# Altium footprint library FQFP - Rectangle.PcbLib: 37 footprints (part 2 of 3)
Each footprint in its own frame and in the unit in brackets; x right, y up, seen from the top. Pads: shape width x height; smd on the part's side, far side on the other; paste and mask are expansions set on the pad; w line width, h text height; cw(c..) or ccw(c..) is an arc to the next point about the centre after c.
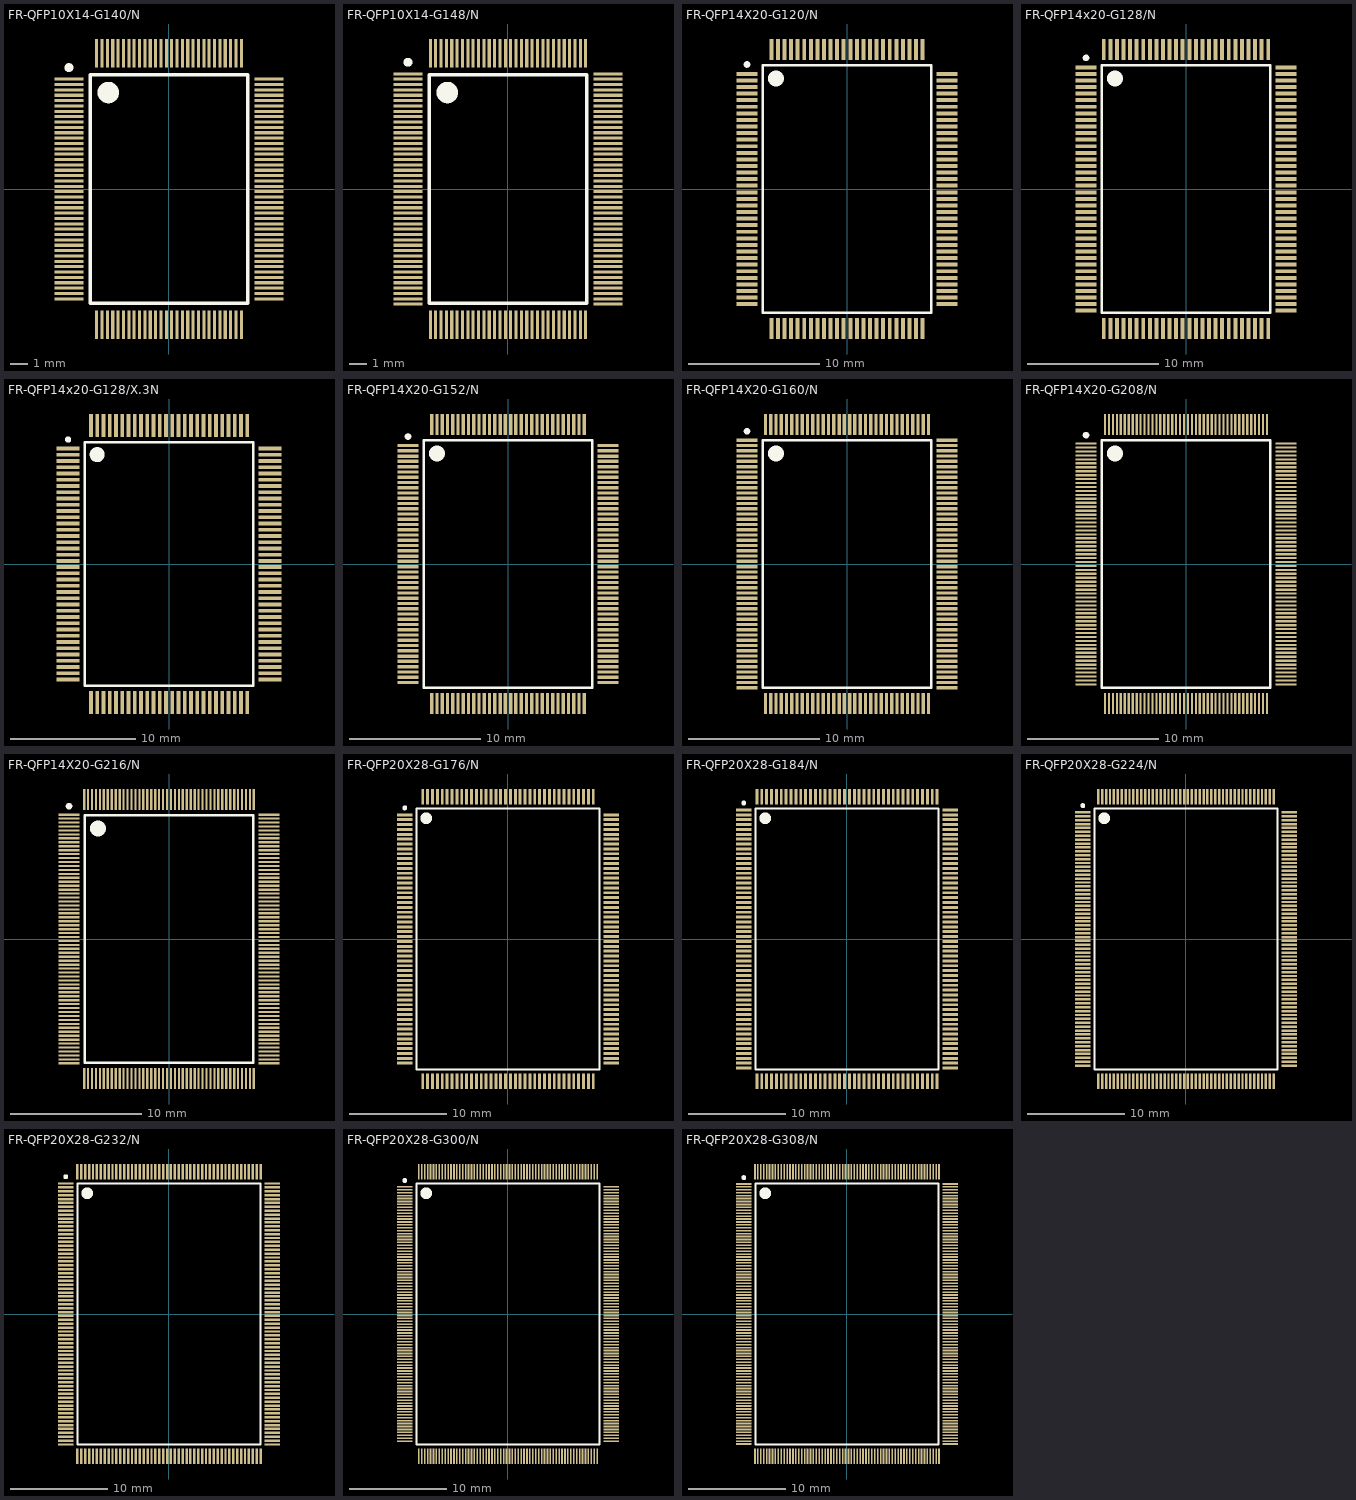
[diagram p1: the footprints below, top view; thin cyan lines are the x and y axes]

## FR-QFP10X14-G140/N [mm] "QFP; 140 Leads; Body 10 x 14 mm; Pitch 0.3 mm"
height 2.2
pads (140):
  rect 1.6x0.17 smd: 1(-5.6,6.15) 2(-5.6,5.85) 3(-5.6,5.55) 4(-5.6,5.25) 5(-5.6,4.95) 6(-5.6,4.65) 7(-5.6,4.35) 8(-5.6,4.05) 9(-5.6,3.75) 10(-5.6,3.45) 11(-5.6,3.15) 12(-5.6,2.85) 13(-5.6,2.55) 14(-5.6,2.25) 15(-5.6,1.95) 16(-5.6,1.65) 17(-5.6,1.35) 18(-5.6,1.05) 19(-5.6,0.75) 20(-5.6,0.45) 21(-5.6,0.15) 22(-5.6,-0.15) 23(-5.6,-0.45) 24(-5.6,-0.75) 25(-5.6,-1.05) 26(-5.6,-1.35) 27(-5.6,-1.65) 28(-5.6,-1.95) 29(-5.6,-2.25) 30(-5.6,-2.55) 31(-5.6,-2.85) 32(-5.6,-3.15) 33(-5.6,-3.45) 34(-5.6,-3.75) 35(-5.6,-4.05) 36(-5.6,-4.35) 37(-5.6,-4.65) 38(-5.6,-4.95) 39(-5.6,-5.25) 40(-5.6,-5.55) 41(-5.6,-5.85) 42(-5.6,-6.15) 71(5.6,-6.15) 72(5.6,-5.85) 73(5.6,-5.55) 74(5.6,-5.25) 75(5.6,-4.95) 76(5.6,-4.65) 77(5.6,-4.35) 78(5.6,-4.05) 79(5.6,-3.75) 80(5.6,-3.45) 81(5.6,-3.15) 82(5.6,-2.85) 83(5.6,-2.55) 84(5.6,-2.25) 85(5.6,-1.95) 86(5.6,-1.65) 87(5.6,-1.35) 88(5.6,-1.05) 89(5.6,-0.75) 90(5.6,-0.45) 91(5.6,-0.15) 92(5.6,0.15) 93(5.6,0.45) 94(5.6,0.75) 95(5.6,1.05) 96(5.6,1.35) 97(5.6,1.65) 98(5.6,1.95) 99(5.6,2.25) 100(5.6,2.55) 101(5.6,2.85) 102(5.6,3.15) 103(5.6,3.45) 104(5.6,3.75) 105(5.6,4.05) 106(5.6,4.35) 107(5.6,4.65) 108(5.6,4.95) 109(5.6,5.25) 110(5.6,5.55) 111(5.6,5.85) 112(5.6,6.15)
  rect 0.17x1.6 smd: 43(-4.05,-7.6) 44(-3.75,-7.6) 45(-3.45,-7.6) 46(-3.15,-7.6) 47(-2.85,-7.6) 48(-2.55,-7.6) 49(-2.25,-7.6) 50(-1.95,-7.6) 51(-1.65,-7.6) 52(-1.35,-7.6) 53(-1.05,-7.6) 54(-0.75,-7.6) 55(-0.45,-7.6) 56(-0.15,-7.6) 57(0.15,-7.6) 58(0.45,-7.6) 59(0.75,-7.6) 60(1.05,-7.6) 61(1.35,-7.6) 62(1.65,-7.6) 63(1.95,-7.6) 64(2.25,-7.6) 65(2.55,-7.6) 66(2.85,-7.6) 67(3.15,-7.6) 68(3.45,-7.6) 69(3.75,-7.6) 70(4.05,-7.6) 113(4.05,7.6) 114(3.75,7.6) 115(3.45,7.6) 116(3.15,7.6) 117(2.85,7.6) 118(2.55,7.6) 119(2.25,7.6) 120(1.95,7.6) 121(1.65,7.6) 122(1.35,7.6) 123(1.05,7.6) 124(0.75,7.6) 125(0.45,7.6) 126(0.15,7.6) 127(-0.15,7.6) 128(-0.45,7.6) 129(-0.75,7.6) 130(-1.05,7.6) 131(-1.35,7.6) 132(-1.65,7.6) 133(-1.95,7.6) 134(-2.25,7.6) 135(-2.55,7.6) 136(-2.85,7.6) 137(-3.15,7.6) 138(-3.45,7.6) 139(-3.75,7.6) 140(-4.05,7.6)
Top Overlay:
  circle w0.6: c-3.4,5.4 r0.3
  circle w0.25: c-5.6,6.797 r0.125
  lines w0.2: -4.4,-6.4 -4.4,6.4 4.4,6.4 4.4,-6.4 -4.4,-6.4

## FR-QFP10X14-G148/N [mm] "QFP; 148 Leads; Body 10 x 14 mm; Pitch 0.3 mm"
height 2.2
pads (148):
  rect 1.6x0.17 smd: 1(-5.6,6.45) 2(-5.6,6.15) 3(-5.6,5.85) 4(-5.6,5.55) 5(-5.6,5.25) 6(-5.6,4.95) 7(-5.6,4.65) 8(-5.6,4.35) 9(-5.6,4.05) 10(-5.6,3.75) 11(-5.6,3.45) 12(-5.6,3.15) 13(-5.6,2.85) 14(-5.6,2.55) 15(-5.6,2.25) 16(-5.6,1.95) 17(-5.6,1.65) 18(-5.6,1.35) 19(-5.6,1.05) 20(-5.6,0.75) 21(-5.6,0.45) 22(-5.6,0.15) 23(-5.6,-0.15) 24(-5.6,-0.45) 25(-5.6,-0.75) 26(-5.6,-1.05) 27(-5.6,-1.35) 28(-5.6,-1.65) 29(-5.6,-1.95) 30(-5.6,-2.25) 31(-5.6,-2.55) 32(-5.6,-2.85) 33(-5.6,-3.15) 34(-5.6,-3.45) 35(-5.6,-3.75) 36(-5.6,-4.05) 37(-5.6,-4.35) 38(-5.6,-4.65) 39(-5.6,-4.95) 40(-5.6,-5.25) 41(-5.6,-5.55) 42(-5.6,-5.85) 43(-5.6,-6.15) 44(-5.6,-6.45) 75(5.6,-6.45) 76(5.6,-6.15) 77(5.6,-5.85) 78(5.6,-5.55) 79(5.6,-5.25) 80(5.6,-4.95) 81(5.6,-4.65) 82(5.6,-4.35) 83(5.6,-4.05) 84(5.6,-3.75) 85(5.6,-3.45) 86(5.6,-3.15) 87(5.6,-2.85) 88(5.6,-2.55) 89(5.6,-2.25) 90(5.6,-1.95) 91(5.6,-1.65) 92(5.6,-1.35) 93(5.6,-1.05) 94(5.6,-0.75) 95(5.6,-0.45) 96(5.6,-0.15) 97(5.6,0.15) 98(5.6,0.45) 99(5.6,0.75) 100(5.6,1.05) 101(5.6,1.35) 102(5.6,1.65) 103(5.6,1.95) 104(5.6,2.25) 105(5.6,2.55) 106(5.6,2.85) 107(5.6,3.15) 108(5.6,3.45) 109(5.6,3.75) 110(5.6,4.05) 111(5.6,4.35) 112(5.6,4.65) 113(5.6,4.95) 114(5.6,5.25) 115(5.6,5.55) 116(5.6,5.85) 117(5.6,6.15) 118(5.6,6.45)
  rect 0.17x1.6 smd: 45(-4.35,-7.6) 46(-4.05,-7.6) 47(-3.75,-7.6) 48(-3.45,-7.6) 49(-3.15,-7.6) 50(-2.85,-7.6) 51(-2.55,-7.6) 52(-2.25,-7.6) 53(-1.95,-7.6) 54(-1.65,-7.6) 55(-1.35,-7.6) 56(-1.05,-7.6) 57(-0.75,-7.6) 58(-0.45,-7.6) 59(-0.15,-7.6) 60(0.15,-7.6) 61(0.45,-7.6) 62(0.75,-7.6) 63(1.05,-7.6) 64(1.35,-7.6) 65(1.65,-7.6) 66(1.95,-7.6) 67(2.25,-7.6) 68(2.55,-7.6) 69(2.85,-7.6) 70(3.15,-7.6) 71(3.45,-7.6) 72(3.75,-7.6) 73(4.05,-7.6) 74(4.35,-7.6) 119(4.35,7.6) 120(4.05,7.6) 121(3.75,7.6) 122(3.45,7.6) 123(3.15,7.6) 124(2.85,7.6) 125(2.55,7.6) 126(2.25,7.6) 127(1.95,7.6) 128(1.65,7.6) 129(1.35,7.6) 130(1.05,7.6) 131(0.75,7.6) 132(0.45,7.6) 133(0.15,7.6) 134(-0.15,7.6) 135(-0.45,7.6) 136(-0.75,7.6) 137(-1.05,7.6) 138(-1.35,7.6) 139(-1.65,7.6) 140(-1.95,7.6) 141(-2.25,7.6) 142(-2.55,7.6) 143(-2.85,7.6) 144(-3.15,7.6) 145(-3.45,7.6) 146(-3.75,7.6) 147(-4.05,7.6) 148(-4.35,7.6)
Top Overlay:
  circle w0.25: c-5.6,7.097 r0.125
  circle w0.6: c-3.4,5.4 r0.3
  lines w0.2: -4.4,-6.4 4.4,-6.4 4.4,6.4 -4.4,6.4 -4.4,-6.4

## FR-QFP14X20-G120/N [mm] "QFP; 120 Leads; Body 14 x 20 mm; Pitch 0.5 mm"
height 2.2
pads (120):
  rect 1.6x0.3 smd: 1(-7.6,8.75) 2(-7.6,8.25) 3(-7.6,7.75) 4(-7.6,7.25) 5(-7.6,6.75) 6(-7.6,6.25) 7(-7.6,5.75) 8(-7.6,5.25) 9(-7.6,4.75) 10(-7.6,4.25) 11(-7.6,3.75) 12(-7.6,3.25) 13(-7.6,2.75) 14(-7.6,2.25) 15(-7.6,1.75) 16(-7.6,1.25) 17(-7.6,0.75) 18(-7.6,0.25) 19(-7.6,-0.25) 20(-7.6,-0.75) 21(-7.6,-1.25) 22(-7.6,-1.75) 23(-7.6,-2.25) 24(-7.6,-2.75) 25(-7.6,-3.25) 26(-7.6,-3.75) 27(-7.6,-4.25) 28(-7.6,-4.75) 29(-7.6,-5.25) 30(-7.6,-5.75) 31(-7.6,-6.25) 32(-7.6,-6.75) 33(-7.6,-7.25) 34(-7.6,-7.75) 35(-7.6,-8.25) 36(-7.6,-8.75) 61(7.6,-8.75) 62(7.6,-8.25) 63(7.6,-7.75) 64(7.6,-7.25) 65(7.6,-6.75) 66(7.6,-6.25) 67(7.6,-5.75) 68(7.6,-5.25) 69(7.6,-4.75) 70(7.6,-4.25) 71(7.6,-3.75) 72(7.6,-3.25) 73(7.6,-2.75) 74(7.6,-2.25) 75(7.6,-1.75) 76(7.6,-1.25) 77(7.6,-0.75) 78(7.6,-0.25) 79(7.6,0.25) 80(7.6,0.75) 81(7.6,1.25) 82(7.6,1.75) 83(7.6,2.25) 84(7.6,2.75) 85(7.6,3.25) 86(7.6,3.75) 87(7.6,4.25) 88(7.6,4.75) 89(7.6,5.25) 90(7.6,5.75) 91(7.6,6.25) 92(7.6,6.75) 93(7.6,7.25) 94(7.6,7.75) 95(7.6,8.25) 96(7.6,8.75)
  rect 0.3x1.6 smd: 37(-5.75,-10.6) 38(-5.25,-10.6) 39(-4.75,-10.6) 40(-4.25,-10.6) 41(-3.75,-10.6) 42(-3.25,-10.6) 43(-2.75,-10.6) 44(-2.25,-10.6) 45(-1.75,-10.6) 46(-1.25,-10.6) 47(-0.75,-10.6) 48(-0.25,-10.6) 49(0.25,-10.6) 50(0.75,-10.6) 51(1.25,-10.6) 52(1.75,-10.6) 53(2.25,-10.6) 54(2.75,-10.6) 55(3.25,-10.6) 56(3.75,-10.6) 57(4.25,-10.6) 58(4.75,-10.6) 59(5.25,-10.6) 60(5.75,-10.6) 97(5.75,10.6) 98(5.25,10.6) 99(4.75,10.6) 100(4.25,10.6) 101(3.75,10.6) 102(3.25,10.6) 103(2.75,10.6) 104(2.25,10.6) 105(1.75,10.6) 106(1.25,10.6) 107(0.75,10.6) 108(0.25,10.6) 109(-0.25,10.6) 110(-0.75,10.6) 111(-1.25,10.6) 112(-1.75,10.6) 113(-2.25,10.6) 114(-2.75,10.6) 115(-3.25,10.6) 116(-3.75,10.6) 117(-4.25,10.6) 118(-4.75,10.6) 119(-5.25,10.6) 120(-5.75,10.6)
Top Overlay:
  circle w0.25: c-7.6,9.463 r0.125
  circle w0.6: c-5.4,8.4 r0.3
  lines w0.2: -6.4,-9.4 6.4,-9.4 6.4,9.4 -6.4,9.4 -6.4,-9.4

## FR-QFP14x20-G128/N [mm] "QFP; 128 Leads; Body 14 x 20 mm; Pitch 0.5 mm"
height 1.6
pads (128):
  rect 1.6x0.3 smd: 1(-7.6,9.25) 2(-7.6,8.75) 3(-7.6,8.25) 4(-7.6,7.75) 5(-7.6,7.25) 6(-7.6,6.75) 7(-7.6,6.25) 8(-7.6,5.75) 9(-7.6,5.25) 10(-7.6,4.75) 11(-7.6,4.25) 12(-7.6,3.75) 13(-7.6,3.25) 14(-7.6,2.75) 15(-7.6,2.25) 16(-7.6,1.75) 17(-7.6,1.25) 18(-7.6,0.75) 19(-7.6,0.25) 20(-7.6,-0.25) 21(-7.6,-0.75) 22(-7.6,-1.25) 23(-7.6,-1.75) 24(-7.6,-2.25) 25(-7.6,-2.75) 26(-7.6,-3.25) 27(-7.6,-3.75) 28(-7.6,-4.25) 29(-7.6,-4.75) 30(-7.6,-5.25) 31(-7.6,-5.75) 32(-7.6,-6.25) 33(-7.6,-6.75) 34(-7.6,-7.25) 35(-7.6,-7.75) 36(-7.6,-8.25) 37(-7.6,-8.75) 38(-7.6,-9.25) 65(7.6,-9.25) 66(7.6,-8.75) 67(7.6,-8.25) 68(7.6,-7.75) 69(7.6,-7.25) 70(7.6,-6.75) 71(7.6,-6.25) 72(7.6,-5.75) 73(7.6,-5.25) 74(7.6,-4.75) 75(7.6,-4.25) 76(7.6,-3.75) 77(7.6,-3.25) 78(7.6,-2.75) 79(7.6,-2.25) 80(7.6,-1.75) 81(7.6,-1.25) 82(7.6,-0.75) 83(7.6,-0.25) 84(7.6,0.25) 85(7.6,0.75) 86(7.6,1.25) 87(7.6,1.75) 88(7.6,2.25) 89(7.6,2.75) 90(7.6,3.25) 91(7.6,3.75) 92(7.6,4.25) 93(7.6,4.75) 94(7.6,5.25) 95(7.6,5.75) 96(7.6,6.25) 97(7.6,6.75) 98(7.6,7.25) 99(7.6,7.75) 100(7.6,8.25) 101(7.6,8.75) 102(7.6,9.25)
  rect 0.3x1.6 smd: 39(-6.25,-10.6) 40(-5.75,-10.6) 41(-5.25,-10.6) 42(-4.75,-10.6) 43(-4.25,-10.6) 44(-3.75,-10.6) 45(-3.25,-10.6) 46(-2.75,-10.6) 47(-2.25,-10.6) 48(-1.75,-10.6) 49(-1.25,-10.6) 50(-0.75,-10.6) 51(-0.25,-10.6) 52(0.25,-10.6) 53(0.75,-10.6) 54(1.25,-10.6) 55(1.75,-10.6) 56(2.25,-10.6) 57(2.75,-10.6) 58(3.25,-10.6) 59(3.75,-10.6) 60(4.25,-10.6) 61(4.75,-10.6) 62(5.25,-10.6) 63(5.75,-10.6) 64(6.25,-10.6) 103(6.25,10.6) 104(5.75,10.6) 105(5.25,10.6) 106(4.75,10.6) 107(4.25,10.6) 108(3.75,10.6) 109(3.25,10.6) 110(2.75,10.6) 111(2.25,10.6) 112(1.75,10.6) 113(1.25,10.6) 114(0.75,10.6) 115(0.25,10.6) 116(-0.25,10.6) 117(-0.75,10.6) 118(-1.25,10.6) 119(-1.75,10.6) 120(-2.25,10.6) 121(-2.75,10.6) 122(-3.25,10.6) 123(-3.75,10.6) 124(-4.25,10.6) 125(-4.75,10.6) 126(-5.25,10.6) 127(-5.75,10.6) 128(-6.25,10.6)
Top Overlay:
  circle w0.25: c-7.6,9.963 r0.125
  circle w0.6: c-5.4,8.4 r0.3
  lines w0.2: -6.4,-9.4 6.4,-9.4 6.4,9.4 -6.4,9.4 -6.4,-9.4

## FR-QFP14x20-G128/X.3N [mm] "QFP; 128 Leads; Body 14 x 20 mm; Pitch 0.5 mm"
height 3.4
pads (128):
  rect 1.85x0.3 smd: 1(-8.075,9.25) 2(-8.075,8.75) 3(-8.075,8.25) 4(-8.075,7.75) 5(-8.075,7.25) 6(-8.075,6.75) 7(-8.075,6.25) 8(-8.075,5.75) 9(-8.075,5.25) 10(-8.075,4.75) 11(-8.075,4.25) 12(-8.075,3.75) 13(-8.075,3.25) 14(-8.075,2.75) 15(-8.075,2.25) 16(-8.075,1.75) 17(-8.075,1.25) 18(-8.075,0.75) 19(-8.075,0.25) 20(-8.075,-0.25) 21(-8.075,-0.75) 22(-8.075,-1.25) 23(-8.075,-1.75) 24(-8.075,-2.25) 25(-8.075,-2.75) 26(-8.075,-3.25) 27(-8.075,-3.75) 28(-8.075,-4.25) 29(-8.075,-4.75) 30(-8.075,-5.25) 31(-8.075,-5.75) 32(-8.075,-6.25) 33(-8.075,-6.75) 34(-8.075,-7.25) 35(-8.075,-7.75) 36(-8.075,-8.25) 37(-8.075,-8.75) 38(-8.075,-9.25) 65(8.075,-9.25) 66(8.075,-8.75) 67(8.075,-8.25) 68(8.075,-7.75) 69(8.075,-7.25) 70(8.075,-6.75) 71(8.075,-6.25) 72(8.075,-5.75) 73(8.075,-5.25) 74(8.075,-4.75) 75(8.075,-4.25) 76(8.075,-3.75) 77(8.075,-3.25) 78(8.075,-2.75) 79(8.075,-2.25) 80(8.075,-1.75) 81(8.075,-1.25) 82(8.075,-0.75) 83(8.075,-0.25) 84(8.075,0.25) 85(8.075,0.75) 86(8.075,1.25) 87(8.075,1.75) 88(8.075,2.25) 89(8.075,2.75) 90(8.075,3.25) 91(8.075,3.75) 92(8.075,4.25) 93(8.075,4.75) 94(8.075,5.25) 95(8.075,5.75) 96(8.075,6.25) 97(8.075,6.75) 98(8.075,7.25) 99(8.075,7.75) 100(8.075,8.25) 101(8.075,8.75) 102(8.075,9.25)
  rect 0.3x1.85 smd: 39(-6.245,-11.08) 40(-5.745,-11.08) 41(-5.245,-11.08) 42(-4.745,-11.08) 43(-4.245,-11.08) 44(-3.745,-11.08) 45(-3.245,-11.08) 46(-2.745,-11.08) 47(-2.245,-11.08) 48(-1.745,-11.08) 49(-1.245,-11.08) 50(-0.745,-11.08) 51(-0.245,-11.08) 52(0.255,-11.08) 53(0.755,-11.08) 54(1.255,-11.08) 55(1.755,-11.08) 56(2.255,-11.08) 57(2.755,-11.08) 58(3.255,-11.08) 59(3.755,-11.08) 60(4.255,-11.08) 61(4.755,-11.08) 62(5.255,-11.08) 63(5.755,-11.08) 64(6.255,-11.08) 103(6.255,11.08) 104(5.755,11.08) 105(5.255,11.08) 106(4.755,11.08) 107(4.255,11.08) 108(3.755,11.08) 109(3.255,11.08) 110(2.755,11.08) 111(2.255,11.08) 112(1.755,11.08) 113(1.255,11.08) 114(0.755,11.08) 115(0.255,11.08) 116(-0.245,11.08) 117(-0.745,11.08) 118(-1.245,11.08) 119(-1.745,11.08) 120(-2.245,11.08) 121(-2.745,11.08) 122(-3.245,11.08) 123(-3.745,11.08) 124(-4.245,11.08) 125(-4.745,11.08) 126(-5.245,11.08) 127(-5.745,11.08) 128(-6.245,11.08)
Top Overlay:
  circle w0.25: c-8.075,9.963 r0.125
  circle w0.6: c-5.75,8.755 r0.3
  lines w0.2: -6.75,-9.745 6.75,-9.745 6.75,9.755 -6.75,9.755 -6.75,-9.745

## FR-QFP14X20-G152/N [mm] "QFP; 152 Leads; Body 14 x 20 mm; Pitch 0.4 mm"
height 2.2
pads (152):
  rect 1.6x0.25 smd: 1(-7.6,9) 2(-7.6,8.6) 3(-7.6,8.2) 4(-7.6,7.8) 5(-7.6,7.4) 6(-7.6,7) 7(-7.6,6.6) 8(-7.6,6.2) 9(-7.6,5.8) 10(-7.6,5.4) 11(-7.6,5) 12(-7.6,4.6) 13(-7.6,4.2) 14(-7.6,3.8) 15(-7.6,3.4) 16(-7.6,3) 17(-7.6,2.6) 18(-7.6,2.2) 19(-7.6,1.8) 20(-7.6,1.4) 21(-7.6,1) 22(-7.6,0.6) 23(-7.6,0.2) 24(-7.6,-0.2) 25(-7.6,-0.6) 26(-7.6,-1) 27(-7.6,-1.4) 28(-7.6,-1.8) 29(-7.6,-2.2) 30(-7.6,-2.6) 31(-7.6,-3) 32(-7.6,-3.4) 33(-7.6,-3.8) 34(-7.6,-4.2) 35(-7.6,-4.6) 36(-7.6,-5) 37(-7.6,-5.4) 38(-7.6,-5.8) 39(-7.6,-6.2) 40(-7.6,-6.6) 41(-7.6,-7) 42(-7.6,-7.4) 43(-7.6,-7.8) 44(-7.6,-8.2) 45(-7.6,-8.6) 46(-7.6,-9) 77(7.6,-9) 78(7.6,-8.6) 79(7.6,-8.2) 80(7.6,-7.8) 81(7.6,-7.4) 82(7.6,-7) 83(7.6,-6.6) 84(7.6,-6.2) 85(7.6,-5.8) 86(7.6,-5.4) 87(7.6,-5) 88(7.6,-4.6) 89(7.6,-4.2) 90(7.6,-3.8) 91(7.6,-3.4) 92(7.6,-3) 93(7.6,-2.6) 94(7.6,-2.2) 95(7.6,-1.8) 96(7.6,-1.4) 97(7.6,-1) 98(7.6,-0.6) 99(7.6,-0.2) 100(7.6,0.2) 101(7.6,0.6) 102(7.6,1) 103(7.6,1.4) 104(7.6,1.8) 105(7.6,2.2) 106(7.6,2.6) 107(7.6,3) 108(7.6,3.4) 109(7.6,3.8) 110(7.6,4.2) 111(7.6,4.6) 112(7.6,5) 113(7.6,5.4) 114(7.6,5.8) 115(7.6,6.2) 116(7.6,6.6) 117(7.6,7) 118(7.6,7.4) 119(7.6,7.8) 120(7.6,8.2) 121(7.6,8.6) 122(7.6,9)
  rect 0.25x1.6 smd: 47(-5.8,-10.6) 48(-5.4,-10.6) 49(-5,-10.6) 50(-4.6,-10.6) 51(-4.2,-10.6) 52(-3.8,-10.6) 53(-3.4,-10.6) 54(-3,-10.6) 55(-2.6,-10.6) 56(-2.2,-10.6) 57(-1.8,-10.6) 58(-1.4,-10.6) 59(-1,-10.6) 60(-0.6,-10.6) 61(-0.2,-10.6) 62(0.2,-10.6) 63(0.6,-10.6) 64(1,-10.6) 65(1.4,-10.6) 66(1.8,-10.6) 67(2.2,-10.6) 68(2.6,-10.6) 69(3,-10.6) 70(3.4,-10.6) 71(3.8,-10.6) 72(4.2,-10.6) 73(4.6,-10.6) 74(5,-10.6) 75(5.4,-10.6) 76(5.8,-10.6) 123(5.8,10.6) 124(5.4,10.6) 125(5,10.6) 126(4.6,10.6) 127(4.2,10.6) 128(3.8,10.6) 129(3.4,10.6) 130(3,10.6) 131(2.6,10.6) 132(2.2,10.6) 133(1.8,10.6) 134(1.4,10.6) 135(1,10.6) 136(0.6,10.6) 137(0.2,10.6) 138(-0.2,10.6) 139(-0.6,10.6) 140(-1,10.6) 141(-1.4,10.6) 142(-1.8,10.6) 143(-2.2,10.6) 144(-2.6,10.6) 145(-3,10.6) 146(-3.4,10.6) 147(-3.8,10.6) 148(-4.2,10.6) 149(-4.6,10.6) 150(-5,10.6) 151(-5.4,10.6) 152(-5.8,10.6)
Top Overlay:
  circle w0.25: c-7.6,9.688 r0.125
  circle w0.6: c-5.4,8.4 r0.3
  lines w0.2: -6.4,-9.4 6.4,-9.4 6.4,9.4 -6.4,9.4 -6.4,-9.4

## FR-QFP14X20-G160/N [mm] "QFP; 160 Leads; Body 14 x 20 mm; Pitch 0.4 mm"
height 2.2
pads (160):
  rect 1.6x0.25 smd: 1(-7.6,9.4) 2(-7.6,9) 3(-7.6,8.6) 4(-7.6,8.2) 5(-7.6,7.8) 6(-7.6,7.4) 7(-7.6,7) 8(-7.6,6.6) 9(-7.6,6.2) 10(-7.6,5.8) 11(-7.6,5.4) 12(-7.6,5) 13(-7.6,4.6) 14(-7.6,4.2) 15(-7.6,3.8) 16(-7.6,3.4) 17(-7.6,3) 18(-7.6,2.6) 19(-7.6,2.2) 20(-7.6,1.8) 21(-7.6,1.4) 22(-7.6,1) 23(-7.6,0.6) 24(-7.6,0.2) 25(-7.6,-0.2) 26(-7.6,-0.6) 27(-7.6,-1) 28(-7.6,-1.4) 29(-7.6,-1.8) 30(-7.6,-2.2) 31(-7.6,-2.6) 32(-7.6,-3) 33(-7.6,-3.4) 34(-7.6,-3.8) 35(-7.6,-4.2) 36(-7.6,-4.6) 37(-7.6,-5) 38(-7.6,-5.4) 39(-7.6,-5.8) 40(-7.6,-6.2) 41(-7.6,-6.6) 42(-7.6,-7) 43(-7.6,-7.4) 44(-7.6,-7.8) 45(-7.6,-8.2) 46(-7.6,-8.6) 47(-7.6,-9) 48(-7.6,-9.4) 81(7.6,-9.4) 82(7.6,-9) 83(7.6,-8.6) 84(7.6,-8.2) 85(7.6,-7.8) 86(7.6,-7.4) 87(7.6,-7) 88(7.6,-6.6) 89(7.6,-6.2) 90(7.6,-5.8) 91(7.6,-5.4) 92(7.6,-5) 93(7.6,-4.6) 94(7.6,-4.2) 95(7.6,-3.8) 96(7.6,-3.4) 97(7.6,-3) 98(7.6,-2.6) 99(7.6,-2.2) 100(7.6,-1.8) 101(7.6,-1.4) 102(7.6,-1) 103(7.6,-0.6) 104(7.6,-0.2) 105(7.6,0.2) 106(7.6,0.6) 107(7.6,1) 108(7.6,1.4) 109(7.6,1.8) 110(7.6,2.2) 111(7.6,2.6) 112(7.6,3) 113(7.6,3.4) 114(7.6,3.8) 115(7.6,4.2) 116(7.6,4.6) 117(7.6,5) 118(7.6,5.4) 119(7.6,5.8) 120(7.6,6.2) 121(7.6,6.6) 122(7.6,7) 123(7.6,7.4) 124(7.6,7.8) 125(7.6,8.2) 126(7.6,8.6) 127(7.6,9) 128(7.6,9.4)
  rect 0.25x1.6 smd: 49(-6.2,-10.6) 50(-5.8,-10.6) 51(-5.4,-10.6) 52(-5,-10.6) 53(-4.6,-10.6) 54(-4.2,-10.6) 55(-3.8,-10.6) 56(-3.4,-10.6) 57(-3,-10.6) 58(-2.6,-10.6) 59(-2.2,-10.6) 60(-1.8,-10.6) 61(-1.4,-10.6) 62(-1,-10.6) 63(-0.6,-10.6) 64(-0.2,-10.6) 65(0.2,-10.6) 66(0.6,-10.6) 67(1,-10.6) 68(1.4,-10.6) 69(1.8,-10.6) 70(2.2,-10.6) 71(2.6,-10.6) 72(3,-10.6) 73(3.4,-10.6) 74(3.8,-10.6) 75(4.2,-10.6) 76(4.6,-10.6) 77(5,-10.6) 78(5.4,-10.6) 79(5.8,-10.6) 80(6.2,-10.6) 129(6.2,10.6) 130(5.8,10.6) 131(5.4,10.6) 132(5,10.6) 133(4.6,10.6) 134(4.2,10.6) 135(3.8,10.6) 136(3.4,10.6) 137(3,10.6) 138(2.6,10.6) 139(2.2,10.6) 140(1.8,10.6) 141(1.4,10.6) 142(1,10.6) 143(0.6,10.6) 144(0.2,10.6) 145(-0.2,10.6) 146(-0.6,10.6) 147(-1,10.6) 148(-1.4,10.6) 149(-1.8,10.6) 150(-2.2,10.6) 151(-2.6,10.6) 152(-3,10.6) 153(-3.4,10.6) 154(-3.8,10.6) 155(-4.2,10.6) 156(-4.6,10.6) 157(-5,10.6) 158(-5.4,10.6) 159(-5.8,10.6) 160(-6.2,10.6)
Top Overlay:
  circle w0.6: c-5.4,8.4 r0.3
  circle w0.25: c-7.6,10.088 r0.125
  lines w0.2: -6.4,-9.4 -6.4,9.4 6.4,9.4 6.4,-9.4 -6.4,-9.4

## FR-QFP14X20-G208/N [mm] "QFP; 208 Leads; Body 14 x 20 mm; Pitch 0.3 mm"
height 2.2
pads (208):
  rect 1.6x0.17 smd: 1(-7.6,9.15) 2(-7.6,8.85) 3(-7.6,8.55) 4(-7.6,8.25) 5(-7.6,7.95) 6(-7.6,7.65) 7(-7.6,7.35) 8(-7.6,7.05) 9(-7.6,6.75) 10(-7.6,6.45) 11(-7.6,6.15) 12(-7.6,5.85) 13(-7.6,5.55) 14(-7.6,5.25) 15(-7.6,4.95) 16(-7.6,4.65) 17(-7.6,4.35) 18(-7.6,4.05) 19(-7.6,3.75) 20(-7.6,3.45) 21(-7.6,3.15) 22(-7.6,2.85) 23(-7.6,2.55) 24(-7.6,2.25) 25(-7.6,1.95) 26(-7.6,1.65) 27(-7.6,1.35) 28(-7.6,1.05) 29(-7.6,0.75) 30(-7.6,0.45) 31(-7.6,0.15) 32(-7.6,-0.15) 33(-7.6,-0.45) 34(-7.6,-0.75) 35(-7.6,-1.05) 36(-7.6,-1.35) 37(-7.6,-1.65) 38(-7.6,-1.95) 39(-7.6,-2.25) 40(-7.6,-2.55) 41(-7.6,-2.85) 42(-7.6,-3.15) 43(-7.6,-3.45) 44(-7.6,-3.75) 45(-7.6,-4.05) 46(-7.6,-4.35) 47(-7.6,-4.65) 48(-7.6,-4.95) 49(-7.6,-5.25) 50(-7.6,-5.55) 51(-7.6,-5.85) 52(-7.6,-6.15) 53(-7.6,-6.45) 54(-7.6,-6.75) 55(-7.6,-7.05) 56(-7.6,-7.35) 57(-7.6,-7.65) 58(-7.6,-7.95) 59(-7.6,-8.25) 60(-7.6,-8.55) 61(-7.6,-8.85) 62(-7.6,-9.15) 105(7.6,-9.15) 106(7.6,-8.85) 107(7.6,-8.55) 108(7.6,-8.25) 109(7.6,-7.95) 110(7.6,-7.65) 111(7.6,-7.35) 112(7.6,-7.05) 113(7.6,-6.75) 114(7.6,-6.45) 115(7.6,-6.15) 116(7.6,-5.85) 117(7.6,-5.55) 118(7.6,-5.25) 119(7.6,-4.95) 120(7.6,-4.65) 121(7.6,-4.35) 122(7.6,-4.05) 123(7.6,-3.75) 124(7.6,-3.45) 125(7.6,-3.15) 126(7.6,-2.85) 127(7.6,-2.55) 128(7.6,-2.25) 129(7.6,-1.95) 130(7.6,-1.65) 131(7.6,-1.35) 132(7.6,-1.05) 133(7.6,-0.75) 134(7.6,-0.45) 135(7.6,-0.15) 136(7.6,0.15) 137(7.6,0.45) 138(7.6,0.75) 139(7.6,1.05) 140(7.6,1.35) 141(7.6,1.65) 142(7.6,1.95) 143(7.6,2.25) 144(7.6,2.55) 145(7.6,2.85) 146(7.6,3.15) 147(7.6,3.45) 148(7.6,3.75) 149(7.6,4.05) 150(7.6,4.35) 151(7.6,4.65) 152(7.6,4.95) 153(7.6,5.25) 154(7.6,5.55) 155(7.6,5.85) 156(7.6,6.15) 157(7.6,6.45) 158(7.6,6.75) 159(7.6,7.05) 160(7.6,7.35) 161(7.6,7.65) 162(7.6,7.95) 163(7.6,8.25) 164(7.6,8.55) 165(7.6,8.85) 166(7.6,9.15)
  rect 0.17x1.6 smd: 63(-6.15,-10.6) 64(-5.85,-10.6) 65(-5.55,-10.6) 66(-5.25,-10.6) 67(-4.95,-10.6) 68(-4.65,-10.6) 69(-4.35,-10.6) 70(-4.05,-10.6) 71(-3.75,-10.6) 72(-3.45,-10.6) 73(-3.15,-10.6) 74(-2.85,-10.6) 75(-2.55,-10.6) 76(-2.25,-10.6) 77(-1.95,-10.6) 78(-1.65,-10.6) 79(-1.35,-10.6) 80(-1.05,-10.6) 81(-0.75,-10.6) 82(-0.45,-10.6) 83(-0.15,-10.6) 84(0.15,-10.6) 85(0.45,-10.6) 86(0.75,-10.6) 87(1.05,-10.6) 88(1.35,-10.6) 89(1.65,-10.6) 90(1.95,-10.6) 91(2.25,-10.6) 92(2.55,-10.6) 93(2.85,-10.6) 94(3.15,-10.6) 95(3.45,-10.6) 96(3.75,-10.6) 97(4.05,-10.6) 98(4.35,-10.6) 99(4.65,-10.6) 100(4.95,-10.6) 101(5.25,-10.6) 102(5.55,-10.6) 103(5.85,-10.6) 104(6.15,-10.6) 167(6.15,10.6) 168(5.85,10.6) 169(5.55,10.6) 170(5.25,10.6) 171(4.95,10.6) 172(4.65,10.6) 173(4.35,10.6) 174(4.05,10.6) 175(3.75,10.6) 176(3.45,10.6) 177(3.15,10.6) 178(2.85,10.6) 179(2.55,10.6) 180(2.25,10.6) 181(1.95,10.6) 182(1.65,10.6) 183(1.35,10.6) 184(1.05,10.6) 185(0.75,10.6) 186(0.45,10.6) 187(0.15,10.6) 188(-0.15,10.6) 189(-0.45,10.6) 190(-0.75,10.6) 191(-1.05,10.6) 192(-1.35,10.6) 193(-1.65,10.6) 194(-1.95,10.6) 195(-2.25,10.6) 196(-2.55,10.6) 197(-2.85,10.6) 198(-3.15,10.6) 199(-3.45,10.6) 200(-3.75,10.6) 201(-4.05,10.6) 202(-4.35,10.6) 203(-4.65,10.6) 204(-4.95,10.6) 205(-5.25,10.6) 206(-5.55,10.6) 207(-5.85,10.6) 208(-6.15,10.6)
Top Overlay:
  circle w0.25: c-7.6,9.798 r0.125
  circle w0.6: c-5.4,8.4 r0.3
  lines w0.2: -6.4,-9.4 6.4,-9.4 6.4,9.4 -6.4,9.4 -6.4,-9.4

## FR-QFP14X20-G216/N [mm] "QFP; 216 Leads; Body 14 x 20 mm; Pitch 0.3 mm"
height 2.2
pads (216):
  rect 1.6x0.17 smd: 1(-7.6,9.45) 2(-7.6,9.15) 3(-7.6,8.85) 4(-7.6,8.55) 5(-7.6,8.25) 6(-7.6,7.95) 7(-7.6,7.65) 8(-7.6,7.35) 9(-7.6,7.05) 10(-7.6,6.75) 11(-7.6,6.45) 12(-7.6,6.15) 13(-7.6,5.85) 14(-7.6,5.55) 15(-7.6,5.25) 16(-7.6,4.95) 17(-7.6,4.65) 18(-7.6,4.35) 19(-7.6,4.05) 20(-7.6,3.75) 21(-7.6,3.45) 22(-7.6,3.15) 23(-7.6,2.85) 24(-7.6,2.55) 25(-7.6,2.25) 26(-7.6,1.95) 27(-7.6,1.65) 28(-7.6,1.35) 29(-7.6,1.05) 30(-7.6,0.75) 31(-7.6,0.45) 32(-7.6,0.15) 33(-7.6,-0.15) 34(-7.6,-0.45) 35(-7.6,-0.75) 36(-7.6,-1.05) 37(-7.6,-1.35) 38(-7.6,-1.65) 39(-7.6,-1.95) 40(-7.6,-2.25) 41(-7.6,-2.55) 42(-7.6,-2.85) 43(-7.6,-3.15) 44(-7.6,-3.45) 45(-7.6,-3.75) 46(-7.6,-4.05) 47(-7.6,-4.35) 48(-7.6,-4.65) 49(-7.6,-4.95) 50(-7.6,-5.25) 51(-7.6,-5.55) 52(-7.6,-5.85) 53(-7.6,-6.15) 54(-7.6,-6.45) 55(-7.6,-6.75) 56(-7.6,-7.05) 57(-7.6,-7.35) 58(-7.6,-7.65) 59(-7.6,-7.95) 60(-7.6,-8.25) 61(-7.6,-8.55) 62(-7.6,-8.85) 63(-7.6,-9.15) 64(-7.6,-9.45) 109(7.6,-9.45) 110(7.6,-9.15) 111(7.6,-8.85) 112(7.6,-8.55) 113(7.6,-8.25) 114(7.6,-7.95) 115(7.6,-7.65) 116(7.6,-7.35) 117(7.6,-7.05) 118(7.6,-6.75) 119(7.6,-6.45) 120(7.6,-6.15) 121(7.6,-5.85) 122(7.6,-5.55) 123(7.6,-5.25) 124(7.6,-4.95) 125(7.6,-4.65) 126(7.6,-4.35) 127(7.6,-4.05) 128(7.6,-3.75) 129(7.6,-3.45) 130(7.6,-3.15) 131(7.6,-2.85) 132(7.6,-2.55) 133(7.6,-2.25) 134(7.6,-1.95) 135(7.6,-1.65) 136(7.6,-1.35) 137(7.6,-1.05) 138(7.6,-0.75) 139(7.6,-0.45) 140(7.6,-0.15) 141(7.6,0.15) 142(7.6,0.45) 143(7.6,0.75) 144(7.6,1.05) 145(7.6,1.35) 146(7.6,1.65) 147(7.6,1.95) 148(7.6,2.25) 149(7.6,2.55) 150(7.6,2.85) 151(7.6,3.15) 152(7.6,3.45) 153(7.6,3.75) 154(7.6,4.05) 155(7.6,4.35) 156(7.6,4.65) 157(7.6,4.95) 158(7.6,5.25) 159(7.6,5.55) 160(7.6,5.85) 161(7.6,6.15) 162(7.6,6.45) 163(7.6,6.75) 164(7.6,7.05) 165(7.6,7.35) 166(7.6,7.65) 167(7.6,7.95) 168(7.6,8.25) 169(7.6,8.55) 170(7.6,8.85) 171(7.6,9.15) 172(7.6,9.45)
  rect 0.17x1.6 smd: 65(-6.45,-10.6) 66(-6.15,-10.6) 67(-5.85,-10.6) 68(-5.55,-10.6) 69(-5.25,-10.6) 70(-4.95,-10.6) 71(-4.65,-10.6) 72(-4.35,-10.6) 73(-4.05,-10.6) 74(-3.75,-10.6) 75(-3.45,-10.6) 76(-3.15,-10.6) 77(-2.85,-10.6) 78(-2.55,-10.6) 79(-2.25,-10.6) 80(-1.95,-10.6) 81(-1.65,-10.6) 82(-1.35,-10.6) 83(-1.05,-10.6) 84(-0.75,-10.6) 85(-0.45,-10.6) 86(-0.15,-10.6) 87(0.15,-10.6) 88(0.45,-10.6) 89(0.75,-10.6) 90(1.05,-10.6) 91(1.35,-10.6) 92(1.65,-10.6) 93(1.95,-10.6) 94(2.25,-10.6) 95(2.55,-10.6) 96(2.85,-10.6) 97(3.15,-10.6) 98(3.45,-10.6) 99(3.75,-10.6) 100(4.05,-10.6) 101(4.35,-10.6) 102(4.65,-10.6) 103(4.95,-10.6) 104(5.25,-10.6) 105(5.55,-10.6) 106(5.85,-10.6) 107(6.15,-10.6) 108(6.45,-10.6) 173(6.45,10.6) 174(6.15,10.6) 175(5.85,10.6) 176(5.55,10.6) 177(5.25,10.6) 178(4.95,10.6) 179(4.65,10.6) 180(4.35,10.6) 181(4.05,10.6) 182(3.75,10.6) 183(3.45,10.6) 184(3.15,10.6) 185(2.85,10.6) 186(2.55,10.6) 187(2.25,10.6) 188(1.95,10.6) 189(1.65,10.6) 190(1.35,10.6) 191(1.05,10.6) 192(0.75,10.6) 193(0.45,10.6) 194(0.15,10.6) 195(-0.15,10.6) 196(-0.45,10.6) 197(-0.75,10.6) 198(-1.05,10.6) 199(-1.35,10.6) 200(-1.65,10.6) 201(-1.95,10.6) 202(-2.25,10.6) 203(-2.55,10.6) 204(-2.85,10.6) 205(-3.15,10.6) 206(-3.45,10.6) 207(-3.75,10.6) 208(-4.05,10.6) 209(-4.35,10.6) 210(-4.65,10.6) 211(-4.95,10.6) 212(-5.25,10.6) 213(-5.55,10.6) 214(-5.85,10.6) 215(-6.15,10.6) 216(-6.45,10.6)
Top Overlay:
  circle w0.6: c-5.4,8.4 r0.3
  circle w0.25: c-7.6,10.098 r0.125
  lines w0.2: -6.4,-9.4 -6.4,9.4 6.4,9.4 6.4,-9.4 -6.4,-9.4

## FR-QFP20X28-G176/N [mm] "QFP; 176 Leads; Body 20 x 28 mm; Pitch 0.5 mm"
height 3.75
pads (176):
  rect 1.6x0.3 smd: 1(-10.6,12.75) 2(-10.6,12.25) 3(-10.6,11.75) 4(-10.6,11.25) 5(-10.6,10.75) 6(-10.6,10.25) 7(-10.6,9.75) 8(-10.6,9.25) 9(-10.6,8.75) 10(-10.6,8.25) 11(-10.6,7.75) 12(-10.6,7.25) 13(-10.6,6.75) 14(-10.6,6.25) 15(-10.6,5.75) 16(-10.6,5.25) 17(-10.6,4.75) 18(-10.6,4.25) 19(-10.6,3.75) 20(-10.6,3.25) 21(-10.6,2.75) 22(-10.6,2.25) 23(-10.6,1.75) 24(-10.6,1.25) 25(-10.6,0.75) 26(-10.6,0.25) 27(-10.6,-0.25) 28(-10.6,-0.75) 29(-10.6,-1.25) 30(-10.6,-1.75) 31(-10.6,-2.25) 32(-10.6,-2.75) 33(-10.6,-3.25) 34(-10.6,-3.75) 35(-10.6,-4.25) 36(-10.6,-4.75) 37(-10.6,-5.25) 38(-10.6,-5.75) 39(-10.6,-6.25) 40(-10.6,-6.75) 41(-10.6,-7.25) 42(-10.6,-7.75) 43(-10.6,-8.25) 44(-10.6,-8.75) 45(-10.6,-9.25) 46(-10.6,-9.75) 47(-10.6,-10.25) 48(-10.6,-10.75) 49(-10.6,-11.25) 50(-10.6,-11.75) 51(-10.6,-12.25) 52(-10.6,-12.75) 89(10.6,-12.75) 90(10.6,-12.25) 91(10.6,-11.75) 92(10.6,-11.25) 93(10.6,-10.75) 94(10.6,-10.25) 95(10.6,-9.75) 96(10.6,-9.25) 97(10.6,-8.75) 98(10.6,-8.25) 99(10.6,-7.75) 100(10.6,-7.25) 101(10.6,-6.75) 102(10.6,-6.25) 103(10.6,-5.75) 104(10.6,-5.25) 105(10.6,-4.75) 106(10.6,-4.25) 107(10.6,-3.75) 108(10.6,-3.25) 109(10.6,-2.75) 110(10.6,-2.25) 111(10.6,-1.75) 112(10.6,-1.25) 113(10.6,-0.75) 114(10.6,-0.25) 115(10.6,0.25) 116(10.6,0.75) 117(10.6,1.25) 118(10.6,1.75) 119(10.6,2.25) 120(10.6,2.75) 121(10.6,3.25) 122(10.6,3.75) 123(10.6,4.25) 124(10.6,4.75) 125(10.6,5.25) 126(10.6,5.75) 127(10.6,6.25) 128(10.6,6.75) 129(10.6,7.25) 130(10.6,7.75) 131(10.6,8.25) 132(10.6,8.75) 133(10.6,9.25) 134(10.6,9.75) 135(10.6,10.25) 136(10.6,10.75) 137(10.6,11.25) 138(10.6,11.75) 139(10.6,12.25) 140(10.6,12.75)
  rect 0.3x1.6 smd: 53(-8.75,-14.6) 54(-8.25,-14.6) 55(-7.75,-14.6) 56(-7.25,-14.6) 57(-6.75,-14.6) 58(-6.25,-14.6) 59(-5.75,-14.6) 60(-5.25,-14.6) 61(-4.75,-14.6) 62(-4.25,-14.6) 63(-3.75,-14.6) 64(-3.25,-14.6) 65(-2.75,-14.6) 66(-2.25,-14.6) 67(-1.75,-14.6) 68(-1.25,-14.6) 69(-0.75,-14.6) 70(-0.25,-14.6) 71(0.25,-14.6) 72(0.75,-14.6) 73(1.25,-14.6) 74(1.75,-14.6) 75(2.25,-14.6) 76(2.75,-14.6) 77(3.25,-14.6) 78(3.75,-14.6) 79(4.25,-14.6) 80(4.75,-14.6) 81(5.25,-14.6) 82(5.75,-14.6) 83(6.25,-14.6) 84(6.75,-14.6) 85(7.25,-14.6) 86(7.75,-14.6) 87(8.25,-14.6) 88(8.75,-14.6) 141(8.75,14.6) 142(8.25,14.6) 143(7.75,14.6) 144(7.25,14.6) 145(6.75,14.6) 146(6.25,14.6) 147(5.75,14.6) 148(5.25,14.6) 149(4.75,14.6) 150(4.25,14.6) 151(3.75,14.6) 152(3.25,14.6) 153(2.75,14.6) 154(2.25,14.6) 155(1.75,14.6) 156(1.25,14.6) 157(0.75,14.6) 158(0.25,14.6) 159(-0.25,14.6) 160(-0.75,14.6) 161(-1.25,14.6) 162(-1.75,14.6) 163(-2.25,14.6) 164(-2.75,14.6) 165(-3.25,14.6) 166(-3.75,14.6) 167(-4.25,14.6) 168(-4.75,14.6) 169(-5.25,14.6) 170(-5.75,14.6) 171(-6.25,14.6) 172(-6.75,14.6) 173(-7.25,14.6) 174(-7.75,14.6) 175(-8.25,14.6) 176(-8.75,14.6)
Top Overlay:
  circle w0.25: c-10.6,13.463 r0.125
  circle w0.6: c-8.4,12.4 r0.3
  lines w0.2: -9.4,-13.4 9.4,-13.4 9.4,13.4 -9.4,13.4 -9.4,-13.4

## FR-QFP20X28-G184/N [mm] "QFP; 184 Leads; Body 20 x 28 mm; Pitch 0.5 mm"
height 3.75
pads (184):
  rect 1.6x0.3 smd: 1(-10.6,13.25) 2(-10.6,12.75) 3(-10.6,12.25) 4(-10.6,11.75) 5(-10.6,11.25) 6(-10.6,10.75) 7(-10.6,10.25) 8(-10.6,9.75) 9(-10.6,9.25) 10(-10.6,8.75) 11(-10.6,8.25) 12(-10.6,7.75) 13(-10.6,7.25) 14(-10.6,6.75) 15(-10.6,6.25) 16(-10.6,5.75) 17(-10.6,5.25) 18(-10.6,4.75) 19(-10.6,4.25) 20(-10.6,3.75) 21(-10.6,3.25) 22(-10.6,2.75) 23(-10.6,2.25) 24(-10.6,1.75) 25(-10.6,1.25) 26(-10.6,0.75) 27(-10.6,0.25) 28(-10.6,-0.25) 29(-10.6,-0.75) 30(-10.6,-1.25) 31(-10.6,-1.75) 32(-10.6,-2.25) 33(-10.6,-2.75) 34(-10.6,-3.25) 35(-10.6,-3.75) 36(-10.6,-4.25) 37(-10.6,-4.75) 38(-10.6,-5.25) 39(-10.6,-5.75) 40(-10.6,-6.25) 41(-10.6,-6.75) 42(-10.6,-7.25) 43(-10.6,-7.75) 44(-10.6,-8.25) 45(-10.6,-8.75) 46(-10.6,-9.25) 47(-10.6,-9.75) 48(-10.6,-10.25) 49(-10.6,-10.75) 50(-10.6,-11.25) 51(-10.6,-11.75) 52(-10.6,-12.25) 53(-10.6,-12.75) 54(-10.6,-13.25) 93(10.6,-13.25) 94(10.6,-12.75) 95(10.6,-12.25) 96(10.6,-11.75) 97(10.6,-11.25) 98(10.6,-10.75) 99(10.6,-10.25) 100(10.6,-9.75) 101(10.6,-9.25) 102(10.6,-8.75) 103(10.6,-8.25) 104(10.6,-7.75) 105(10.6,-7.25) 106(10.6,-6.75) 107(10.6,-6.25) 108(10.6,-5.75) 109(10.6,-5.25) 110(10.6,-4.75) 111(10.6,-4.25) 112(10.6,-3.75) 113(10.6,-3.25) 114(10.6,-2.75) 115(10.6,-2.25) 116(10.6,-1.75) 117(10.6,-1.25) 118(10.6,-0.75) 119(10.6,-0.25) 120(10.6,0.25) 121(10.6,0.75) 122(10.6,1.25) 123(10.6,1.75) 124(10.6,2.25) 125(10.6,2.75) 126(10.6,3.25) 127(10.6,3.75) 128(10.6,4.25) 129(10.6,4.75) 130(10.6,5.25) 131(10.6,5.75) 132(10.6,6.25) 133(10.6,6.75) 134(10.6,7.25) 135(10.6,7.75) 136(10.6,8.25) 137(10.6,8.75) 138(10.6,9.25) 139(10.6,9.75) 140(10.6,10.25) 141(10.6,10.75) 142(10.6,11.25) 143(10.6,11.75) 144(10.6,12.25) 145(10.6,12.75) 146(10.6,13.25)
  rect 0.3x1.6 smd: 55(-9.25,-14.6) 56(-8.75,-14.6) 57(-8.25,-14.6) 58(-7.75,-14.6) 59(-7.25,-14.6) 60(-6.75,-14.6) 61(-6.25,-14.6) 62(-5.75,-14.6) 63(-5.25,-14.6) 64(-4.75,-14.6) 65(-4.25,-14.6) 66(-3.75,-14.6) 67(-3.25,-14.6) 68(-2.75,-14.6) 69(-2.25,-14.6) 70(-1.75,-14.6) 71(-1.25,-14.6) 72(-0.75,-14.6) 73(-0.25,-14.6) 74(0.25,-14.6) 75(0.75,-14.6) 76(1.25,-14.6) 77(1.75,-14.6) 78(2.25,-14.6) 79(2.75,-14.6) 80(3.25,-14.6) 81(3.75,-14.6) 82(4.25,-14.6) 83(4.75,-14.6) 84(5.25,-14.6) 85(5.75,-14.6) 86(6.25,-14.6) 87(6.75,-14.6) 88(7.25,-14.6) 89(7.75,-14.6) 90(8.25,-14.6) 91(8.75,-14.6) 92(9.25,-14.6) 147(9.25,14.6) 148(8.75,14.6) 149(8.25,14.6) 150(7.75,14.6) 151(7.25,14.6) 152(6.75,14.6) 153(6.25,14.6) 154(5.75,14.6) 155(5.25,14.6) 156(4.75,14.6) 157(4.25,14.6) 158(3.75,14.6) 159(3.25,14.6) 160(2.75,14.6) 161(2.25,14.6) 162(1.75,14.6) 163(1.25,14.6) 164(0.75,14.6) 165(0.25,14.6) 166(-0.25,14.6) 167(-0.75,14.6) 168(-1.25,14.6) 169(-1.75,14.6) 170(-2.25,14.6) 171(-2.75,14.6) 172(-3.25,14.6) 173(-3.75,14.6) 174(-4.25,14.6) 175(-4.75,14.6) 176(-5.25,14.6) 177(-5.75,14.6) 178(-6.25,14.6) 179(-6.75,14.6) 180(-7.25,14.6) 181(-7.75,14.6) 182(-8.25,14.6) 183(-8.75,14.6) 184(-9.25,14.6)
Top Overlay:
  circle w0.25: c-10.6,13.963 r0.125
  circle w0.6: c-8.4,12.4 r0.3
  lines w0.2: -9.4,-13.4 9.4,-13.4 9.4,13.4 -9.4,13.4 -9.4,-13.4

## FR-QFP20X28-G224/N [mm] "QFP; 224 Leads; Body 20 x 28 mm; Pitch 0.4 mm"
height 3.75
pads (224):
  rect 1.6x0.25 smd: 1(-10.6,13) 2(-10.6,12.6) 3(-10.6,12.2) 4(-10.6,11.8) 5(-10.6,11.4) 6(-10.6,11) 7(-10.6,10.6) 8(-10.6,10.2) 9(-10.6,9.8) 10(-10.6,9.4) 11(-10.6,9) 12(-10.6,8.6) 13(-10.6,8.2) 14(-10.6,7.8) 15(-10.6,7.4) 16(-10.6,7) 17(-10.6,6.6) 18(-10.6,6.2) 19(-10.6,5.8) 20(-10.6,5.4) 21(-10.6,5) 22(-10.6,4.6) 23(-10.6,4.2) 24(-10.6,3.8) 25(-10.6,3.4) 26(-10.6,3) 27(-10.6,2.6) 28(-10.6,2.2) 29(-10.6,1.8) 30(-10.6,1.4) 31(-10.6,1) 32(-10.6,0.6) 33(-10.6,0.2) 34(-10.6,-0.2) 35(-10.6,-0.6) 36(-10.6,-1) 37(-10.6,-1.4) 38(-10.6,-1.8) 39(-10.6,-2.2) 40(-10.6,-2.6) 41(-10.6,-3) 42(-10.6,-3.4) 43(-10.6,-3.8) 44(-10.6,-4.2) 45(-10.6,-4.6) 46(-10.6,-5) 47(-10.6,-5.4) 48(-10.6,-5.8) 49(-10.6,-6.2) 50(-10.6,-6.6) 51(-10.6,-7) 52(-10.6,-7.4) 53(-10.6,-7.8) 54(-10.6,-8.2) 55(-10.6,-8.6) 56(-10.6,-9) 57(-10.6,-9.4) 58(-10.6,-9.8) 59(-10.6,-10.2) 60(-10.6,-10.6) 61(-10.6,-11) 62(-10.6,-11.4) 63(-10.6,-11.8) 64(-10.6,-12.2) 65(-10.6,-12.6) 66(-10.6,-13) 113(10.6,-13) 114(10.6,-12.6) 115(10.6,-12.2) 116(10.6,-11.8) 117(10.6,-11.4) 118(10.6,-11) 119(10.6,-10.6) 120(10.6,-10.2) 121(10.6,-9.8) 122(10.6,-9.4) 123(10.6,-9) 124(10.6,-8.6) 125(10.6,-8.2) 126(10.6,-7.8) 127(10.6,-7.4) 128(10.6,-7) 129(10.6,-6.6) 130(10.6,-6.2) 131(10.6,-5.8) 132(10.6,-5.4) 133(10.6,-5) 134(10.6,-4.6) 135(10.6,-4.2) 136(10.6,-3.8) 137(10.6,-3.4) 138(10.6,-3) 139(10.6,-2.6) 140(10.6,-2.2) 141(10.6,-1.8) 142(10.6,-1.4) 143(10.6,-1) 144(10.6,-0.6) 145(10.6,-0.2) 146(10.6,0.2) 147(10.6,0.6) 148(10.6,1) 149(10.6,1.4) 150(10.6,1.8) 151(10.6,2.2) 152(10.6,2.6) 153(10.6,3) 154(10.6,3.4) 155(10.6,3.8) 156(10.6,4.2) 157(10.6,4.6) 158(10.6,5) 159(10.6,5.4) 160(10.6,5.8) 161(10.6,6.2) 162(10.6,6.6) 163(10.6,7) 164(10.6,7.4) 165(10.6,7.8) 166(10.6,8.2) 167(10.6,8.6) 168(10.6,9) 169(10.6,9.4) 170(10.6,9.8) 171(10.6,10.2) 172(10.6,10.6) 173(10.6,11) 174(10.6,11.4) 175(10.6,11.8) 176(10.6,12.2) 177(10.6,12.6) 178(10.6,13)
  rect 0.25x1.6 smd: 67(-9,-14.6) 68(-8.6,-14.6) 69(-8.2,-14.6) 70(-7.8,-14.6) 71(-7.4,-14.6) 72(-7,-14.6) 73(-6.6,-14.6) 74(-6.2,-14.6) 75(-5.8,-14.6) 76(-5.4,-14.6) 77(-5,-14.6) 78(-4.6,-14.6) 79(-4.2,-14.6) 80(-3.8,-14.6) 81(-3.4,-14.6) 82(-3,-14.6) 83(-2.6,-14.6) 84(-2.2,-14.6) 85(-1.8,-14.6) 86(-1.4,-14.6) 87(-1,-14.6) 88(-0.6,-14.6) 89(-0.2,-14.6) 90(0.2,-14.6) 91(0.6,-14.6) 92(1,-14.6) 93(1.4,-14.6) 94(1.8,-14.6) 95(2.2,-14.6) 96(2.6,-14.6) 97(3,-14.6) 98(3.4,-14.6) 99(3.8,-14.6) 100(4.2,-14.6) 101(4.6,-14.6) 102(5,-14.6) 103(5.4,-14.6) 104(5.8,-14.6) 105(6.2,-14.6) 106(6.6,-14.6) 107(7,-14.6) 108(7.4,-14.6) 109(7.8,-14.6) 110(8.2,-14.6) 111(8.6,-14.6) 112(9,-14.6) 179(9,14.6) 180(8.6,14.6) 181(8.2,14.6) 182(7.8,14.6) 183(7.4,14.6) 184(7,14.6) 185(6.6,14.6) 186(6.2,14.6) 187(5.8,14.6) 188(5.4,14.6) 189(5,14.6) 190(4.6,14.6) 191(4.2,14.6) 192(3.8,14.6) 193(3.4,14.6) 194(3,14.6) 195(2.6,14.6) 196(2.2,14.6) 197(1.8,14.6) 198(1.4,14.6) 199(1,14.6) 200(0.6,14.6) 201(0.2,14.6) 202(-0.2,14.6) 203(-0.6,14.6) 204(-1,14.6) 205(-1.4,14.6) 206(-1.8,14.6) 207(-2.2,14.6) 208(-2.6,14.6) 209(-3,14.6) 210(-3.4,14.6) 211(-3.8,14.6) 212(-4.2,14.6) 213(-4.6,14.6) 214(-5,14.6) 215(-5.4,14.6) 216(-5.8,14.6) 217(-6.2,14.6) 218(-6.6,14.6) 219(-7,14.6) 220(-7.4,14.6) 221(-7.8,14.6) 222(-8.2,14.6) 223(-8.6,14.6) 224(-9,14.6)
Top Overlay:
  circle w0.25: c-10.6,13.688 r0.125
  circle w0.6: c-8.4,12.4 r0.3
  lines w0.2: -9.4,-13.4 9.4,-13.4 9.4,13.4 -9.4,13.4 -9.4,-13.4

## FR-QFP20X28-G232/N [mm] "QFP; 232 Leads; Body 20 x 28 mm; Pitch 0.4 mm"
height 3.75
pads (232):
  rect 1.6x0.25 smd: 1(-10.6,13.4) 2(-10.6,13) 3(-10.6,12.6) 4(-10.6,12.2) 5(-10.6,11.8) 6(-10.6,11.4) 7(-10.6,11) 8(-10.6,10.6) 9(-10.6,10.2) 10(-10.6,9.8) 11(-10.6,9.4) 12(-10.6,9) 13(-10.6,8.6) 14(-10.6,8.2) 15(-10.6,7.8) 16(-10.6,7.4) 17(-10.6,7) 18(-10.6,6.6) 19(-10.6,6.2) 20(-10.6,5.8) 21(-10.6,5.4) 22(-10.6,5) 23(-10.6,4.6) 24(-10.6,4.2) 25(-10.6,3.8) 26(-10.6,3.4) 27(-10.6,3) 28(-10.6,2.6) 29(-10.6,2.2) 30(-10.6,1.8) 31(-10.6,1.4) 32(-10.6,1) 33(-10.6,0.6) 34(-10.6,0.2) 35(-10.6,-0.2) 36(-10.6,-0.6) 37(-10.6,-1) 38(-10.6,-1.4) 39(-10.6,-1.8) 40(-10.6,-2.2) 41(-10.6,-2.6) 42(-10.6,-3) 43(-10.6,-3.4) 44(-10.6,-3.8) 45(-10.6,-4.2) 46(-10.6,-4.6) 47(-10.6,-5) 48(-10.6,-5.4) 49(-10.6,-5.8) 50(-10.6,-6.2) 51(-10.6,-6.6) 52(-10.6,-7) 53(-10.6,-7.4) 54(-10.6,-7.8) 55(-10.6,-8.2) 56(-10.6,-8.6) 57(-10.6,-9) 58(-10.6,-9.4) 59(-10.6,-9.8) 60(-10.6,-10.2) 61(-10.6,-10.6) 62(-10.6,-11) 63(-10.6,-11.4) 64(-10.6,-11.8) 65(-10.6,-12.2) 66(-10.6,-12.6) 67(-10.6,-13) 68(-10.6,-13.4) 117(10.6,-13.4) 118(10.6,-13) 119(10.6,-12.6) 120(10.6,-12.2) 121(10.6,-11.8) 122(10.6,-11.4) 123(10.6,-11) 124(10.6,-10.6) 125(10.6,-10.2) 126(10.6,-9.8) 127(10.6,-9.4) 128(10.6,-9) 129(10.6,-8.6) 130(10.6,-8.2) 131(10.6,-7.8) 132(10.6,-7.4) 133(10.6,-7) 134(10.6,-6.6) 135(10.6,-6.2) 136(10.6,-5.8) 137(10.6,-5.4) 138(10.6,-5) 139(10.6,-4.6) 140(10.6,-4.2) 141(10.6,-3.8) 142(10.6,-3.4) 143(10.6,-3) 144(10.6,-2.6) 145(10.6,-2.2) 146(10.6,-1.8) 147(10.6,-1.4) 148(10.6,-1) 149(10.6,-0.6) 150(10.6,-0.2) 151(10.6,0.2) 152(10.6,0.6) 153(10.6,1) 154(10.6,1.4) 155(10.6,1.8) 156(10.6,2.2) 157(10.6,2.6) 158(10.6,3) 159(10.6,3.4) 160(10.6,3.8) 161(10.6,4.2) 162(10.6,4.6) 163(10.6,5) 164(10.6,5.4) 165(10.6,5.8) 166(10.6,6.2) 167(10.6,6.6) 168(10.6,7) 169(10.6,7.4) 170(10.6,7.8) 171(10.6,8.2) 172(10.6,8.6) 173(10.6,9) 174(10.6,9.4) 175(10.6,9.8) 176(10.6,10.2) 177(10.6,10.6) 178(10.6,11) 179(10.6,11.4) 180(10.6,11.8) 181(10.6,12.2) 182(10.6,12.6) 183(10.6,13) 184(10.6,13.4)
  rect 0.25x1.6 smd: 69(-9.4,-14.6) 70(-9,-14.6) 71(-8.6,-14.6) 72(-8.2,-14.6) 73(-7.8,-14.6) 74(-7.4,-14.6) 75(-7,-14.6) 76(-6.6,-14.6) 77(-6.2,-14.6) 78(-5.8,-14.6) 79(-5.4,-14.6) 80(-5,-14.6) 81(-4.6,-14.6) 82(-4.2,-14.6) 83(-3.8,-14.6) 84(-3.4,-14.6) 85(-3,-14.6) 86(-2.6,-14.6) 87(-2.2,-14.6) 88(-1.8,-14.6) 89(-1.4,-14.6) 90(-1,-14.6) 91(-0.6,-14.6) 92(-0.2,-14.6) 93(0.2,-14.6) 94(0.6,-14.6) 95(1,-14.6) 96(1.4,-14.6) 97(1.8,-14.6) 98(2.2,-14.6) 99(2.6,-14.6) 100(3,-14.6) 101(3.4,-14.6) 102(3.8,-14.6) 103(4.2,-14.6) 104(4.6,-14.6) 105(5,-14.6) 106(5.4,-14.6) 107(5.8,-14.6) 108(6.2,-14.6) 109(6.6,-14.6) 110(7,-14.6) 111(7.4,-14.6) 112(7.8,-14.6) 113(8.2,-14.6) 114(8.6,-14.6) 115(9,-14.6) 116(9.4,-14.6) 185(9.4,14.6) 186(9,14.6) 187(8.6,14.6) 188(8.2,14.6) 189(7.8,14.6) 190(7.4,14.6) 191(7,14.6) 192(6.6,14.6) 193(6.2,14.6) 194(5.8,14.6) 195(5.4,14.6) 196(5,14.6) 197(4.6,14.6) 198(4.2,14.6) 199(3.8,14.6) 200(3.4,14.6) 201(3,14.6) 202(2.6,14.6) 203(2.2,14.6) 204(1.8,14.6) 205(1.4,14.6) 206(1,14.6) 207(0.6,14.6) 208(0.2,14.6) 209(-0.2,14.6) 210(-0.6,14.6) 211(-1,14.6) 212(-1.4,14.6) 213(-1.8,14.6) 214(-2.2,14.6) 215(-2.6,14.6) 216(-3,14.6) 217(-3.4,14.6) 218(-3.8,14.6) 219(-4.2,14.6) 220(-4.6,14.6) 221(-5,14.6) 222(-5.4,14.6) 223(-5.8,14.6) 224(-6.2,14.6) 225(-6.6,14.6) 226(-7,14.6) 227(-7.4,14.6) 228(-7.8,14.6) 229(-8.2,14.6) 230(-8.6,14.6) 231(-9,14.6) 232(-9.4,14.6)
Top Overlay:
  circle w0.25: c-10.6,14.088 r0.125
  circle w0.6: c-8.4,12.4 r0.3
  lines w0.2: -9.4,-13.4 9.4,-13.4 9.4,13.4 -9.4,13.4 -9.4,-13.4

## FR-QFP20X28-G300/N [mm] "QFP; 300 Leads; Body 20 x 28 mm; Pitch 0.3 mm"
height 3.75
pads (300):
  rect 1.6x0.17 smd: 1(-10.6,13.05) 2(-10.6,12.75) 3(-10.6,12.45) 4(-10.6,12.15) 5(-10.6,11.85) 6(-10.6,11.55) 7(-10.6,11.25) 8(-10.6,10.95) 9(-10.6,10.65) 10(-10.6,10.35) 11(-10.6,10.05) 12(-10.6,9.75) 13(-10.6,9.45) 14(-10.6,9.15) 15(-10.6,8.85) 16(-10.6,8.55) 17(-10.6,8.25) 18(-10.6,7.95) 19(-10.6,7.65) 20(-10.6,7.35) 21(-10.6,7.05) 22(-10.6,6.75) 23(-10.6,6.45) 24(-10.6,6.15) 25(-10.6,5.85) 26(-10.6,5.55) 27(-10.6,5.25) 28(-10.6,4.95) 29(-10.6,4.65) 30(-10.6,4.35) 31(-10.6,4.05) 32(-10.6,3.75) 33(-10.6,3.45) 34(-10.6,3.15) 35(-10.6,2.85) 36(-10.6,2.55) 37(-10.6,2.25) 38(-10.6,1.95) 39(-10.6,1.65) 40(-10.6,1.35) 41(-10.6,1.05) 42(-10.6,0.75) 43(-10.6,0.45) 44(-10.6,0.15) 45(-10.6,-0.15) 46(-10.6,-0.45) 47(-10.6,-0.75) 48(-10.6,-1.05) 49(-10.6,-1.35) 50(-10.6,-1.65) 51(-10.6,-1.95) 52(-10.6,-2.25) 53(-10.6,-2.55) 54(-10.6,-2.85) 55(-10.6,-3.15) 56(-10.6,-3.45) 57(-10.6,-3.75) 58(-10.6,-4.05) 59(-10.6,-4.35) 60(-10.6,-4.65) 61(-10.6,-4.95) 62(-10.6,-5.25) 63(-10.6,-5.55) 64(-10.6,-5.85) 65(-10.6,-6.15) 66(-10.6,-6.45) 67(-10.6,-6.75) 68(-10.6,-7.05) 69(-10.6,-7.35) 70(-10.6,-7.65) 71(-10.6,-7.95) 72(-10.6,-8.25) 73(-10.6,-8.55) 74(-10.6,-8.85) 75(-10.6,-9.15) 76(-10.6,-9.45) 77(-10.6,-9.75) 78(-10.6,-10.05) 79(-10.6,-10.35) 80(-10.6,-10.65) 81(-10.6,-10.95) 82(-10.6,-11.25) 83(-10.6,-11.55) 84(-10.6,-11.85) 85(-10.6,-12.15) 86(-10.6,-12.45) 87(-10.6,-12.75) 88(-10.6,-13.05) 151(10.6,-13.05) 152(10.6,-12.75) 153(10.6,-12.45) 154(10.6,-12.15) 155(10.6,-11.85) 156(10.6,-11.55) 157(10.6,-11.25) 158(10.6,-10.95) 159(10.6,-10.65) 160(10.6,-10.35) 161(10.6,-10.05) 162(10.6,-9.75) 163(10.6,-9.45) 164(10.6,-9.15) 165(10.6,-8.85) 166(10.6,-8.55) 167(10.6,-8.25) 168(10.6,-7.95) 169(10.6,-7.65) 170(10.6,-7.35) 171(10.6,-7.05) 172(10.6,-6.75) 173(10.6,-6.45) 174(10.6,-6.15) 175(10.6,-5.85) 176(10.6,-5.55) 177(10.6,-5.25) 178(10.6,-4.95) 179(10.6,-4.65) 180(10.6,-4.35) 181(10.6,-4.05) 182(10.6,-3.75) 183(10.6,-3.45) 184(10.6,-3.15) 185(10.6,-2.85) 186(10.6,-2.55) 187(10.6,-2.25) 188(10.6,-1.95) 189(10.6,-1.65) 190(10.6,-1.35) 191(10.6,-1.05) 192(10.6,-0.75) 193(10.6,-0.45) 194(10.6,-0.15) 195(10.6,0.15) 196(10.6,0.45) 197(10.6,0.75) 198(10.6,1.05) 199(10.6,1.35) 200(10.6,1.65) 201(10.6,1.95) 202(10.6,2.25) 203(10.6,2.55) 204(10.6,2.85) 205(10.6,3.15) 206(10.6,3.45) 207(10.6,3.75) 208(10.6,4.05) 209(10.6,4.35) 210(10.6,4.65) 211(10.6,4.95) 212(10.6,5.25) 213(10.6,5.55) 214(10.6,5.85) 215(10.6,6.15) 216(10.6,6.45) 217(10.6,6.75) 218(10.6,7.05) 219(10.6,7.35) 220(10.6,7.65) 221(10.6,7.95) 222(10.6,8.25) 223(10.6,8.55) 224(10.6,8.85) 225(10.6,9.15) 226(10.6,9.45) 227(10.6,9.75) 228(10.6,10.05) 229(10.6,10.35) 230(10.6,10.65) 231(10.6,10.95) 232(10.6,11.25) 233(10.6,11.55) 234(10.6,11.85) 235(10.6,12.15) 236(10.6,12.45) 237(10.6,12.75) 238(10.6,13.05)
  rect 0.17x1.6 smd: 89(-9.15,-14.6) 90(-8.85,-14.6) 91(-8.55,-14.6) 92(-8.25,-14.6) 93(-7.95,-14.6) 94(-7.65,-14.6) 95(-7.35,-14.6) 96(-7.05,-14.6) 97(-6.75,-14.6) 98(-6.45,-14.6) 99(-6.15,-14.6) 100(-5.85,-14.6) 101(-5.55,-14.6) 102(-5.25,-14.6) 103(-4.95,-14.6) 104(-4.65,-14.6) 105(-4.35,-14.6) 106(-4.05,-14.6) 107(-3.75,-14.6) 108(-3.45,-14.6) 109(-3.15,-14.6) 110(-2.85,-14.6) 111(-2.55,-14.6) 112(-2.25,-14.6) 113(-1.95,-14.6) 114(-1.65,-14.6) 115(-1.35,-14.6) 116(-1.05,-14.6) 117(-0.75,-14.6) 118(-0.45,-14.6) 119(-0.15,-14.6) 120(0.15,-14.6) 121(0.45,-14.6) 122(0.75,-14.6) 123(1.05,-14.6) 124(1.35,-14.6) 125(1.65,-14.6) 126(1.95,-14.6) 127(2.25,-14.6) 128(2.55,-14.6) 129(2.85,-14.6) 130(3.15,-14.6) 131(3.45,-14.6) 132(3.75,-14.6) 133(4.05,-14.6) 134(4.35,-14.6) 135(4.65,-14.6) 136(4.95,-14.6) 137(5.25,-14.6) 138(5.55,-14.6) 139(5.85,-14.6) 140(6.15,-14.6) 141(6.45,-14.6) 142(6.75,-14.6) 143(7.05,-14.6) 144(7.35,-14.6) 145(7.65,-14.6) 146(7.95,-14.6) 147(8.25,-14.6) 148(8.55,-14.6) 149(8.85,-14.6) 150(9.15,-14.6) 239(9.15,14.6) 240(8.85,14.6) 241(8.55,14.6) 242(8.25,14.6) 243(7.95,14.6) 244(7.65,14.6) 245(7.35,14.6) 246(7.05,14.6) 247(6.75,14.6) 248(6.45,14.6) 249(6.15,14.6) 250(5.85,14.6) 251(5.55,14.6) 252(5.25,14.6) 253(4.95,14.6) 254(4.65,14.6) 255(4.35,14.6) 256(4.05,14.6) 257(3.75,14.6) 258(3.45,14.6) 259(3.15,14.6) 260(2.85,14.6) 261(2.55,14.6) 262(2.25,14.6) 263(1.95,14.6) 264(1.65,14.6) 265(1.35,14.6) 266(1.05,14.6) 267(0.75,14.6) 268(0.45,14.6) 269(0.15,14.6) 270(-0.15,14.6) 271(-0.45,14.6) 272(-0.75,14.6) 273(-1.05,14.6) 274(-1.35,14.6) 275(-1.65,14.6) 276(-1.95,14.6) 277(-2.25,14.6) 278(-2.55,14.6) 279(-2.85,14.6) 280(-3.15,14.6) 281(-3.45,14.6) 282(-3.75,14.6) 283(-4.05,14.6) 284(-4.35,14.6) 285(-4.65,14.6) 286(-4.95,14.6) 287(-5.25,14.6) 288(-5.55,14.6) 289(-5.85,14.6) 290(-6.15,14.6) 291(-6.45,14.6) 292(-6.75,14.6) 293(-7.05,14.6) 294(-7.35,14.6) 295(-7.65,14.6) 296(-7.95,14.6) 297(-8.25,14.6) 298(-8.55,14.6) 299(-8.85,14.6) 300(-9.15,14.6)
Top Overlay:
  circle w0.25: c-10.6,13.698 r0.125
  circle w0.6: c-8.4,12.4 r0.3
  lines w0.2: -9.4,-13.4 9.4,-13.4 9.4,13.4 -9.4,13.4 -9.4,-13.4

## FR-QFP20X28-G308/N [mm] "QFP; 308 Leads; Body 20 x 28 mm; Pitch 0.3 mm"
height 3.75
pads (308):
  rect 1.6x0.17 smd: 1(-10.6,13.35) 2(-10.6,13.05) 3(-10.6,12.75) 4(-10.6,12.45) 5(-10.6,12.15) 6(-10.6,11.85) 7(-10.6,11.55) 8(-10.6,11.25) 9(-10.6,10.95) 10(-10.6,10.65) 11(-10.6,10.35) 12(-10.6,10.05) 13(-10.6,9.75) 14(-10.6,9.45) 15(-10.6,9.15) 16(-10.6,8.85) 17(-10.6,8.55) 18(-10.6,8.25) 19(-10.6,7.95) 20(-10.6,7.65) 21(-10.6,7.35) 22(-10.6,7.05) 23(-10.6,6.75) 24(-10.6,6.45) 25(-10.6,6.15) 26(-10.6,5.85) 27(-10.6,5.55) 28(-10.6,5.25) 29(-10.6,4.95) 30(-10.6,4.65) 31(-10.6,4.35) 32(-10.6,4.05) 33(-10.6,3.75) 34(-10.6,3.45) 35(-10.6,3.15) 36(-10.6,2.85) 37(-10.6,2.55) 38(-10.6,2.25) 39(-10.6,1.95) 40(-10.6,1.65) 41(-10.6,1.35) 42(-10.6,1.05) 43(-10.6,0.75) 44(-10.6,0.45) 45(-10.6,0.15) 46(-10.6,-0.15) 47(-10.6,-0.45) 48(-10.6,-0.75) 49(-10.6,-1.05) 50(-10.6,-1.35) 51(-10.6,-1.65) 52(-10.6,-1.95) 53(-10.6,-2.25) 54(-10.6,-2.55) 55(-10.6,-2.85) 56(-10.6,-3.15) 57(-10.6,-3.45) 58(-10.6,-3.75) 59(-10.6,-4.05) 60(-10.6,-4.35) 61(-10.6,-4.65) 62(-10.6,-4.95) 63(-10.6,-5.25) 64(-10.6,-5.55) 65(-10.6,-5.85) 66(-10.6,-6.15) 67(-10.6,-6.45) 68(-10.6,-6.75) 69(-10.6,-7.05) 70(-10.6,-7.35) 71(-10.6,-7.65) 72(-10.6,-7.95) 73(-10.6,-8.25) 74(-10.6,-8.55) 75(-10.6,-8.85) 76(-10.6,-9.15) 77(-10.6,-9.45) 78(-10.6,-9.75) 79(-10.6,-10.05) 80(-10.6,-10.35) 81(-10.6,-10.65) 82(-10.6,-10.95) 83(-10.6,-11.25) 84(-10.6,-11.55) 85(-10.6,-11.85) 86(-10.6,-12.15) 87(-10.6,-12.45) 88(-10.6,-12.75) 89(-10.6,-13.05) 90(-10.6,-13.35) 155(10.6,-13.35) 156(10.6,-13.05) 157(10.6,-12.75) 158(10.6,-12.45) 159(10.6,-12.15) 160(10.6,-11.85) 161(10.6,-11.55) 162(10.6,-11.25) 163(10.6,-10.95) 164(10.6,-10.65) 165(10.6,-10.35) 166(10.6,-10.05) 167(10.6,-9.75) 168(10.6,-9.45) 169(10.6,-9.15) 170(10.6,-8.85) 171(10.6,-8.55) 172(10.6,-8.25) 173(10.6,-7.95) 174(10.6,-7.65) 175(10.6,-7.35) 176(10.6,-7.05) 177(10.6,-6.75) 178(10.6,-6.45) 179(10.6,-6.15) 180(10.6,-5.85) 181(10.6,-5.55) 182(10.6,-5.25) 183(10.6,-4.95) 184(10.6,-4.65) 185(10.6,-4.35) 186(10.6,-4.05) 187(10.6,-3.75) 188(10.6,-3.45) 189(10.6,-3.15) 190(10.6,-2.85) 191(10.6,-2.55) 192(10.6,-2.25) 193(10.6,-1.95) 194(10.6,-1.65) 195(10.6,-1.35) 196(10.6,-1.05) 197(10.6,-0.75) 198(10.6,-0.45) 199(10.6,-0.15) 200(10.6,0.15) 201(10.6,0.45) 202(10.6,0.75) 203(10.6,1.05) 204(10.6,1.35) 205(10.6,1.65) 206(10.6,1.95) 207(10.6,2.25) 208(10.6,2.55) 209(10.6,2.85) 210(10.6,3.15) 211(10.6,3.45) 212(10.6,3.75) 213(10.6,4.05) 214(10.6,4.35) 215(10.6,4.65) 216(10.6,4.95) 217(10.6,5.25) 218(10.6,5.55) 219(10.6,5.85) 220(10.6,6.15) 221(10.6,6.45) 222(10.6,6.75) 223(10.6,7.05) 224(10.6,7.35) 225(10.6,7.65) 226(10.6,7.95) 227(10.6,8.25) 228(10.6,8.55) 229(10.6,8.85) 230(10.6,9.15) 231(10.6,9.45) 232(10.6,9.75) 233(10.6,10.05) 234(10.6,10.35) 235(10.6,10.65) 236(10.6,10.95) 237(10.6,11.25) 238(10.6,11.55) 239(10.6,11.85) 240(10.6,12.15) 241(10.6,12.45) 242(10.6,12.75) 243(10.6,13.05) 244(10.6,13.35)
  rect 0.17x1.6 smd: 91(-9.45,-14.6) 92(-9.15,-14.6) 93(-8.85,-14.6) 94(-8.55,-14.6) 95(-8.25,-14.6) 96(-7.95,-14.6) 97(-7.65,-14.6) 98(-7.35,-14.6) 99(-7.05,-14.6) 100(-6.75,-14.6) 101(-6.45,-14.6) 102(-6.15,-14.6) 103(-5.85,-14.6) 104(-5.55,-14.6) 105(-5.25,-14.6) 106(-4.95,-14.6) 107(-4.65,-14.6) 108(-4.35,-14.6) 109(-4.05,-14.6) 110(-3.75,-14.6) 111(-3.45,-14.6) 112(-3.15,-14.6) 113(-2.85,-14.6) 114(-2.55,-14.6) 115(-2.25,-14.6) 116(-1.95,-14.6) 117(-1.65,-14.6) 118(-1.35,-14.6) 119(-1.05,-14.6) 120(-0.75,-14.6) 121(-0.45,-14.6) 122(-0.15,-14.6) 123(0.15,-14.6) 124(0.45,-14.6) 125(0.75,-14.6) 126(1.05,-14.6) 127(1.35,-14.6) 128(1.65,-14.6) 129(1.95,-14.6) 130(2.25,-14.6) 131(2.55,-14.6) 132(2.85,-14.6) 133(3.15,-14.6) 134(3.45,-14.6) 135(3.75,-14.6) 136(4.05,-14.6) 137(4.35,-14.6) 138(4.65,-14.6) 139(4.95,-14.6) 140(5.25,-14.6) 141(5.55,-14.6) 142(5.85,-14.6) 143(6.15,-14.6) 144(6.45,-14.6) 145(6.75,-14.6) 146(7.05,-14.6) 147(7.35,-14.6) 148(7.65,-14.6) 149(7.95,-14.6) 150(8.25,-14.6) 151(8.55,-14.6) 152(8.85,-14.6) 153(9.15,-14.6) 154(9.45,-14.6) 245(9.45,14.6) 246(9.15,14.6) 247(8.85,14.6) 248(8.55,14.6) 249(8.25,14.6) 250(7.95,14.6) 251(7.65,14.6) 252(7.35,14.6) 253(7.05,14.6) 254(6.75,14.6) 255(6.45,14.6) 256(6.15,14.6) 257(5.85,14.6) 258(5.55,14.6) 259(5.25,14.6) 260(4.95,14.6) 261(4.65,14.6) 262(4.35,14.6) 263(4.05,14.6) 264(3.75,14.6) 265(3.45,14.6) 266(3.15,14.6) 267(2.85,14.6) 268(2.55,14.6) 269(2.25,14.6) 270(1.95,14.6) 271(1.65,14.6) 272(1.35,14.6) 273(1.05,14.6) 274(0.75,14.6) 275(0.45,14.6) 276(0.15,14.6) 277(-0.15,14.6) 278(-0.45,14.6) 279(-0.75,14.6) 280(-1.05,14.6) 281(-1.35,14.6) 282(-1.65,14.6) 283(-1.95,14.6) 284(-2.25,14.6) 285(-2.55,14.6) 286(-2.85,14.6) 287(-3.15,14.6) 288(-3.45,14.6) 289(-3.75,14.6) 290(-4.05,14.6) 291(-4.35,14.6) 292(-4.65,14.6) 293(-4.95,14.6) 294(-5.25,14.6) 295(-5.55,14.6) 296(-5.85,14.6) 297(-6.15,14.6) 298(-6.45,14.6) 299(-6.75,14.6) 300(-7.05,14.6) 301(-7.35,14.6) 302(-7.65,14.6) 303(-7.95,14.6) 304(-8.25,14.6) 305(-8.55,14.6) 306(-8.85,14.6) 307(-9.15,14.6) 308(-9.45,14.6)
Top Overlay:
  circle w0.25: c-10.6,13.998 r0.125
  circle w0.6: c-8.4,12.4 r0.3
  lines w0.2: -9.4,-13.4 9.4,-13.4 9.4,13.4 -9.4,13.4 -9.4,-13.4